# EAGLE library part AT45DB011D (library funkfinger)
1 Mbit, 2.7V serial-interface Flash memory by Atmel http://www.atmel.com/Images/doc3639.pdf
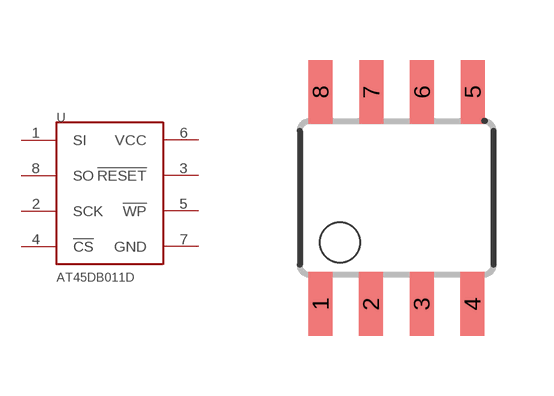
[diagram p5: symbol with the pads of 8S1; footprint 8S1]

Designator prefix -

## AT45DB011D  [8S1]
1  SI
2  SCK
3  !RESET
4  !CS
5  !WP
6  VCC
7  GND
8  SO

## Footprint 8S1 (pad centres in mm)
8S1 , 8-lead (0.150" Wide Body), Plastic Gull Wing Small Outline (JEDEC SOIC)
smd 0.6 x 1.6: 1 -1.524,-2.781; 2 -0.264,-2.781; 3 1.006,-2.781; 4 2.276,-2.781; 5 2.286,2.527; 6 1.016,2.527; 7 -0.254,2.527; 8 -1.524,2.527